# EAGLE library part FFC-12 (library monome)
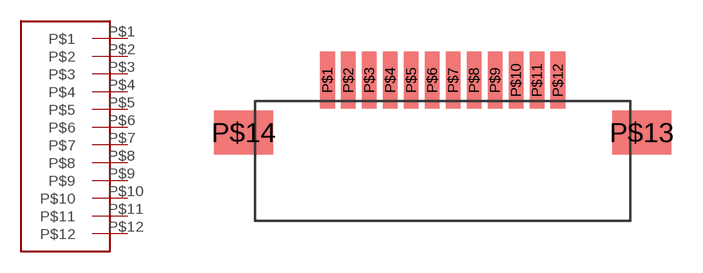
[diagram p15: symbol with the pads of FFC-12; footprint FFC-12]

Designator prefix -

## FFC-12  [FFC-12]
P$1  P$1
P$2  P$2
P$3  P$3
P$4  P$4
P$5  P$5
P$6  P$6
P$7  P$7
P$8  P$8
P$9  P$9
P$10  P$10
P$11  P$11
P$12  P$12

## Footprint FFC-12 (pad centres in mm)
smd 0.7 x 2.7: P$1 0,0; P$2 1,0; P$3 2,0; P$4 3,0; P$5 4,0; P$6 5,0; P$7 6,0; P$8 7,0; P$9 8,0; P$10 9,0; P$11 10,0; P$12 11,0
smd 2.8 x 2.1: P$13 15,-2.5; P$14 -4,-2.5